# Altium integrated library DGD0506AM10-13_HIGH_SIDE_DRV.IntLib: 1 symbol
Pins are listed as number, name and electrical type; pins without a type are passive.

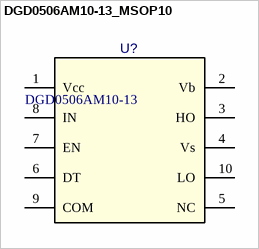
[diagram p0: symbol DGD0506AM10-13_MSOP10]

## DGD0506AM10-13_MSOP10
designator U?, comment DGD0506AM10-13
Half Bridge Gate Driver IC Non Inverting 10 MSOP; Package: SO8; EDM-PN: *; Text2: *; Text1: *; Value: DGD0506AM10-13; DCE Part No: *; Part Number: DGD0506AM10-13; Supplier 1: RSComponents; Supplier Part Number 1: 1827336P
footprint MSOP10-3X3 (MSOP, 10-Leads, Body 3.1x3.1mm (max), Pitch 0.50mm, IPC Medium Density)
pins: 1 Vcc (power), 2 Vb, 3 HO, 4 Vs, 5 NC, 6 DT (power), 7 EN (power), 8 IN (power), 9 COM (power), 10 LO